# Altium footprint library 16P_HEADER-SPE-HTST_108_01_L_DV.PcbLib: 1 footprints
Each footprint in its own frame and in the unit in brackets; x right, y up, seen from the top. Pads: shape width x height; smd on the part's side, far side on the other; paste and mask are expansions set on the pad; w line width, h text height; cw(c..) or ccw(c..) is an arc to the next point about the centre after c.
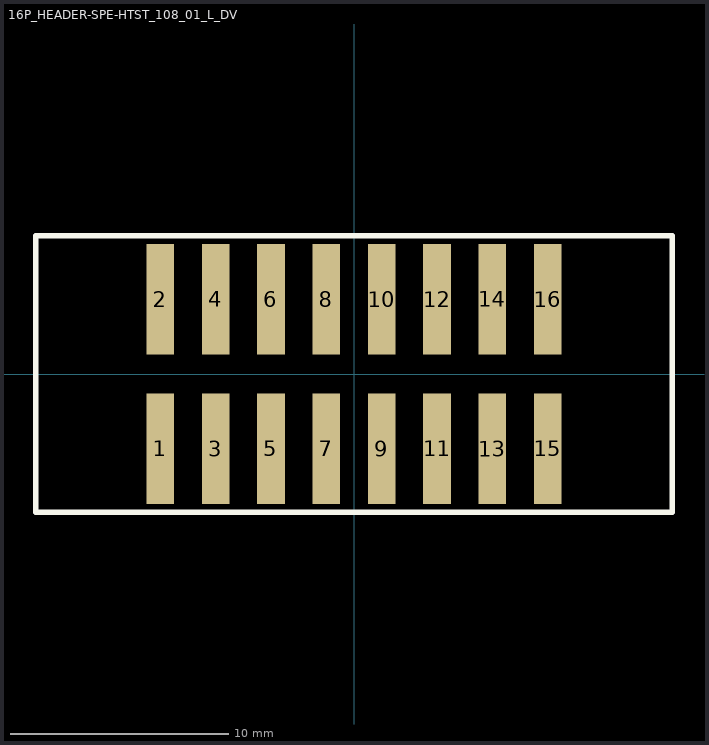
[diagram p0: the footprint, top view; thin cyan lines are the x and y axes]

## 16P_HEADER-SPE-HTST_108_01_L_DV [mil] "16 pin, 2.54mm header"
pads (16):
  rect 50x200 smd mask+2: 1(-350,-135) 2(-350,135) 3(-250,-135) 4(-250,135) 5(-150,-135) 6(-150,135) 7(-50,-135) 8(-50,135) 9(50,-135) 10(50,135) 11(150,-135) 12(150,135) 13(250,-135) 14(250,135) 15(350,-135) 16(350,135)
Top Overlay:
  lines w10: -575,-250 575,-250 575,250 -575,250 -575,-250
3D body: height 399.9, standoff -50.1, extent -550,-220 550,220